# EAGLE library part USB (library densikit)
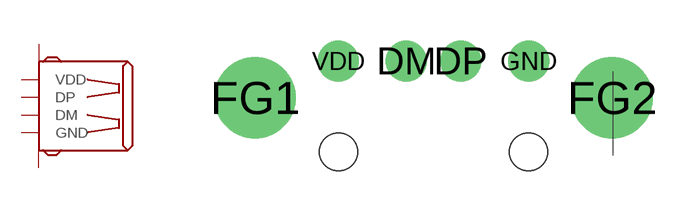
[diagram p16: symbol with the pads of USB-A-FEMALE; footprint USB-A-FEMALE]

Designator prefix CN

## USB-A-FEMALE  [USB-A-FEMALE]
DM  DM
DP  DP
FG1  GND1  pwr
FG2  GND2  pwr
GND  GND  pwr
VDD  VDD  pwr

## Footprint USB-A-FEMALE (pad centres in mm)
drill 1: DM -1,3.98; DP 1,3.98; GND 3.5,3.98; VDD -3.5,3.98
drill 2: FG1 -6.57,2.625; FG2 6.57,2.625
hole 1.4 at 3.5,0.63
hole 1.4 at -3.5,0.63